# Altium integrated library ESP32-S2-DEVKITM-1U.IntLib: 1 symbol
Pins are listed as number, name and electrical type; pins without a type are passive.

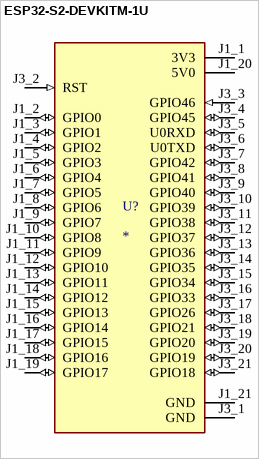
[diagram p0: symbol ESP32-S2-DEVKITM-1U]

## ESP32-S2-DEVKITM-1U
designator U?
WiFi Development Tools (802.11) [ENGINEERING SAMPLES ONLY]General-Purpose Development Board, embeds ESP32-S2-MINI-1U, 4 MB flash; MF: Espressif Systems; MP: ESP32-S2-DEVKITM-1U; SnapEDA_Link: https://www.snapeda.com/parts/ESP32-S2-DEVKITM-1U/Espressif+Systems/view-part/?ref=snap; Package: None; Value: *; Check_prices: https://www.snapeda.com/parts/ESP32-S2-DEVKITM-1U/Espressif+Systems/view-part/?ref=eda
footprint XCVR_ESP32-S2-DEVKITM-1U
pins: J1_1 3V3 (power), J1_2 GPIO0 (io), J1_3 GPIO1 (io), J1_4 GPIO2 (io), J1_5 GPIO3 (io), J1_6 GPIO4 (io), J1_7 GPIO5 (io), J1_8 GPIO6 (io), J1_9 GPIO7 (io), J1_10 GPIO8 (io), J1_11 GPIO9 (io), J1_12 GPIO10 (io), J1_13 GPIO11 (io), J1_14 GPIO12 (io), J1_15 GPIO13 (io), J1_16 GPIO14 (io), J1_17 GPIO15 (io), J1_18 GPIO16 (io), J1_19 GPIO17 (io), J1_20 5V0 (power), J1_21 GND (power), J3_1 GND (power), J3_2 RST (in), J3_3 GPIO46 (in), J3_4 GPIO45 (io), J3_5 U0RXD (io), J3_6 U0TXD (io), J3_7 GPIO42 (io), J3_8 GPIO41 (io), J3_9 GPIO40 (io), J3_10 GPIO39 (io), J3_11 GPIO38 (io), J3_12 GPIO37 (io), J3_13 GPIO36 (io), J3_14 GPIO35 (io), J3_15 GPIO34 (io), J3_16 GPIO33 (io), J3_17 GPIO26 (io), J3_18 GPIO21 (io), J3_19 GPIO20 (io), J3_20 GPIO19 (io), J3_21 GPIO18 (io)